# Altium footprint library Keebs.PcbLib: 219 footprints (part 11 of 14)
Each footprint in its own frame and in the unit in brackets; x right, y up, seen from the top. Pads: shape width x height; smd on the part's side, far side on the other; paste and mask are expansions set on the pad; w line width, h text height; cw(c..) or ccw(c..) is an arc to the next point about the centre after c.
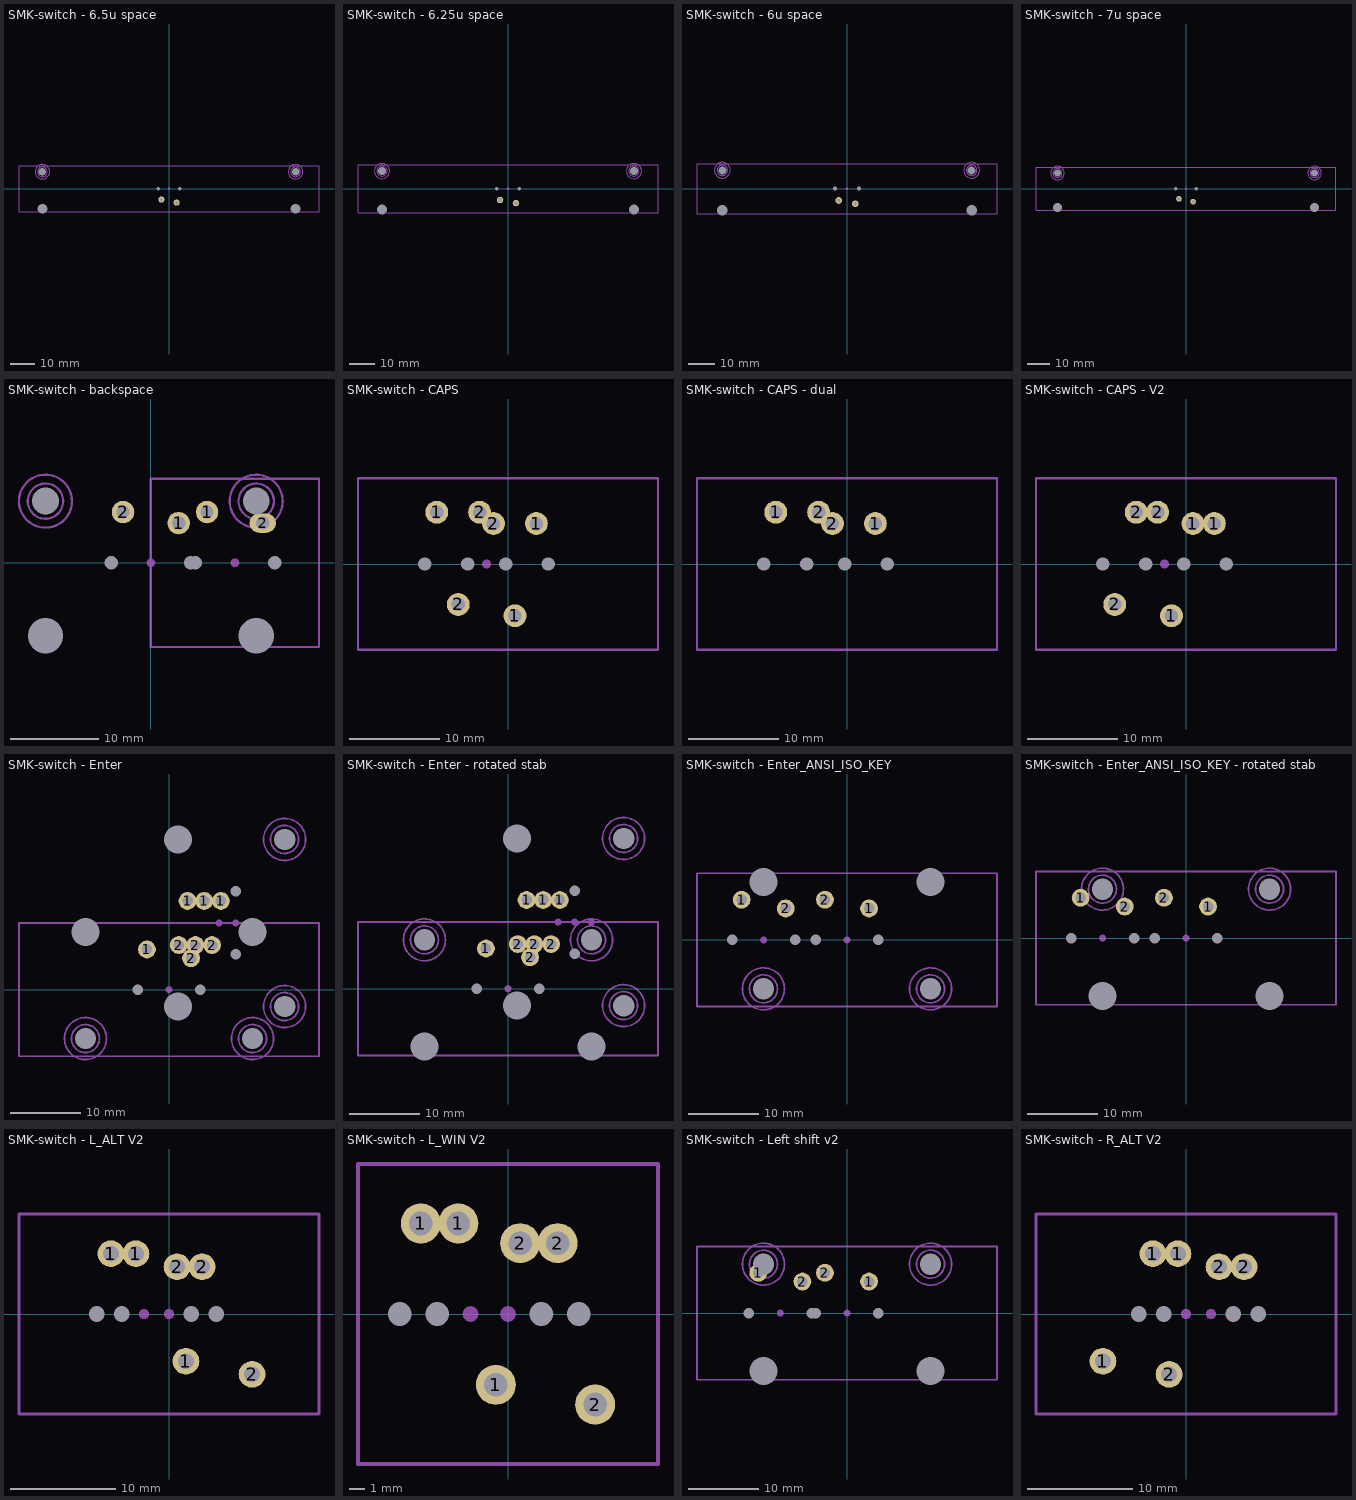
[diagram p10: the footprints below, top view; thin cyan lines are the x and y axes]

## SMK-switch - 6.5u space [mm]
pads (9):
  round 2.54 hole 1.5 mask-0.5: 1(3.15,-5.75) 2(-3.15,-4.5)
  round 1.524 hole 4 unplated: ""(-52.25,-8.255) ""(52.25,-8.255)
  round 1.524 hole 3.048 unplated: ""(-52.25,6.985) ""(52.25,6.985)
  round 1 hole 1.5 unplated: ""(-4.5,0) ""(4.5,0)
  round 1 on Mech13: ""(0,0)
Mechanical 13:
  lines w0.254: -61.912,-9.525 61.912,-9.525 61.912,9.525 -61.912,9.525 -61.912,-9.525
  text ".Designator" at -3.575,-3.7 h0.7
Mechanical 15:
  circle w0.254: c52.25,6.985 r2
  circle w0.254: c52.25,6.985 r3
  circle w0.254: c-52.25,6.985 r2
  circle w0.254: c-52.25,6.985 r3

## SMK-switch - 6.25u space [mm]
pads (9):
  round 2.54 hole 1.5 mask-0.5: 1(3.15,-5.75) 2(-3.15,-4.5)
  round 1.524 hole 4 unplated: ""(-50,-8.255) ""(50,-8.255)
  round 1.524 hole 3.048 unplated: ""(-50,6.985) ""(50,6.985)
  round 1 hole 1.5 unplated: ""(-4.5,0) ""(4.5,0)
  round 1 on Mech13: ""(0,0)
Mechanical 13:
  lines w0.254: -59.531,-9.525 59.531,-9.525 59.531,9.525 -59.531,9.525 -59.531,-9.525
  text ".Designator" at -3.575,-3.7 h0.7
Mechanical 15:
  circle w0.254: c-50,6.985 r3
  circle w0.254: c-50,6.985 r2
  circle w0.254: c50,6.985 r3
  circle w0.254: c50,6.985 r2

## SMK-switch - 6u space [mm]
pads (9):
  round 2.54 hole 1.499 mask-0.5: 1(3.15,-5.75) 2(-3.15,-4.5)
  round 1.524 hole 4 unplated: ""(-47.5,-8.255) ""(47.5,-8.255)
  round 1.524 hole 3.048 unplated: ""(-47.5,6.985) ""(47.5,6.985)
  round 1 hole 1.5 unplated: ""(-4.5,0) ""(4.5,0)
  round 1 on Mech13: ""(0,0)
Mechanical 13:
  lines w0.254: -57.15,-9.525 -57.15,9.525 57.15,9.525 57.15,-9.525 -57.15,-9.525
  text ".Designator" at -3.575,-3.7 h0.7
Mechanical 15:
  circle w0.254: c-47.5,6.985 r3
  circle w0.254: c-47.5,6.985 r2
  circle w0.254: c47.5,6.985 r3
  circle w0.254: c47.5,6.985 r2

## SMK-switch - 7u space [mm]
pads (9):
  round 2.54 hole 1.5 mask-0.5: 1(3.15,-5.75) 2(-3.15,-4.5)
  round 1.524 hole 4 unplated: ""(-57.15,-8.255) ""(57.15,-8.255)
  round 1.524 hole 3.048 unplated: ""(-57.15,6.985) ""(57.15,6.985)
  round 1 hole 1.5 unplated: ""(-4.5,0) ""(4.5,0)
  round 1 on Mech13: ""(0,0)
Mechanical 13:
  lines w0.254: -66.675,-9.525 -66.675,9.525 66.675,9.525 66.675,-9.525 -66.675,-9.525
  text ".Designator" at -3.575,-3.7 h0.7
Mechanical 15:
  circle w0.254: c-57.15,6.985 r3
  circle w0.254: c-57.15,6.985 r2
  circle w0.254: c57.15,6.985 r3
  circle w0.254: c57.15,6.985 r2

## SMK-switch - backspace [mm]
pads (14):
  round 2.54 hole 1.5 mask-0.5: 1(3.15,4.5) 1(6.375,5.75) 2(-3.15,5.75)
  oval 3x2.2 hole 1.5 mask-0.7: 2(12.675,4.5)
  round 1.524 hole 4 unplated: ""(-11.938,-8.255) ""(11.938,-8.255)
  round 1.524 hole 3.048 unplated: ""(-11.938,6.985) ""(11.938,6.985)
  round 1 hole 1.5 unplated: ""(-4.5,0) ""(4.5,0) ""(5.025,0) ""(14.025,0)
  round 1 on Mech13: ""(0,0) ""(9.525,0)
Mechanical 13:
  lines w0.254: 0,-9.525 19.05,-9.525 19.05,9.525 0,9.525 0,-9.525
  text ".Designator" at 6.65,3.75 h0.7
Mechanical 15:
  circle w0.254: c11.938,6.985 r2
  circle w0.254: c11.938,6.985 r3
  circle w0.254: c-11.938,6.985 r2
  circle w0.254: c-11.938,6.985 r3

## SMK-switch - CAPS [mm]
pads (13):
  round 2.54 hole 1.5 mask-0.5: 1(-7.912,5.75) 1(0.769,-5.75) 1(3.15,4.5) 2(-5.531,-4.5) 2(-3.15,5.75) 2(-1.613,4.5)
  round 1 hole 1.5 unplated: ""(-9.263,0) ""(-4.5,0) ""(-0.262,0) ""(4.5,0)
  round 1 on Mech13: ""(-4.763,0) ""(-2.381,0) ""(0,0)
Mechanical 13:
  lines w0.254: -16.669,-9.525 16.669,-9.525 ; -16.669,-9.525 16.669,-9.525 ; -16.669,-9.525 -16.669,9.525 16.669,9.525 16.669,-9.525
  text ".Designator" at -7.85,-7.5 h0.7

## SMK-switch - CAPS - dual [mm]
pads (10):
  round 2.54 hole 1.5 mask-0.5: 1(-7.912,5.75) 1(3.15,4.5) 2(-3.15,5.75) 2(-1.613,4.5)
  round 1 hole 1.5 unplated: ""(-9.263,0) ""(-4.5,0) ""(-0.262,0) ""(4.5,0)
  round 1 on Mech13: ""(-4.763,0) ""(0,0)
Mechanical 13:
  lines w0.254: -16.669,-9.525 -16.669,9.525 16.669,9.525 16.669,-9.525 ; -16.669,-9.525 16.669,-9.525 ; -16.669,-9.525 16.669,-9.525
  text ".Designator" at -7.85,-7.5 h0.7

## SMK-switch - CAPS - V2 [mm]
pads (13):
  round 2.54 hole 1.5 mask-0.5: 1(-1.613,-5.75) 1(0.769,4.5) 1(3.15,4.5) 2(-7.912,-4.5) 2(-5.531,5.75) 2(-3.15,5.75)
  round 1 hole 1.5 unplated: ""(-9.263,0) ""(-4.5,0) ""(-0.262,0) ""(4.5,0)
  round 1 on Mech13: ""(-4.763,0) ""(-2.381,0) ""(0,0)
Mechanical 13:
  lines w0.254: -16.669,-9.525 16.669,-9.525 ; -16.669,-9.525 16.669,-9.525 ; -16.669,-9.525 -16.669,9.525 16.669,9.525 16.669,-9.525
  text ".Designator" at -7.85,-7.5 h0.7

## SMK-switch - Enter [mm]
pads (24):
  round 2.54 hole 1.5 mask-0.5: 1(-3.15,5.75) 1(2.649,12.68) 1(5.03,12.68) 1(7.411,12.68) 2(1.399,6.38) 2(3.15,4.5) 2(3.78,6.38) 2(6.161,6.38)
  round 1.524 hole 3.048 unplated: ""(-11.938,-6.985) ""(11.938,-6.985) ""(16.515,-2.408) ""(16.515,21.468)
  round 1.524 hole 4 unplated: ""(-11.938,8.255) ""(1.275,-2.408) ""(1.275,21.468) ""(11.938,8.255)
  round 1 hole 1.5 unplated: ""(-4.5,0) ""(4.5,0) ""(9.53,5.03) ""(9.53,14.03)
  round 1 on Mech13: ""(0,0) ""(7.149,9.53) ""(9.53,9.53) ""(11.911,9.53)
Mechanical 13:
  lines w0.254: -21.431,-9.525 21.431,-9.525 21.431,9.525 -21.431,9.525 -21.431,-9.525
  text ".Designator" at 7.85,1.8 h0.7
Mechanical 15:
  circle w0.254: c-11.938,-6.985 r3
  circle w0.254: c-11.938,-6.985 r2
  circle w0.254: c11.938,-6.985 r3
  circle w0.254: c11.938,-6.985 r2
  circle w0.254: c16.515,-2.408 r3
  circle w0.254: c16.515,-2.408 r2
  circle w0.254: c16.515,21.468 r3
  circle w0.254: c16.515,21.468 r2

## SMK-switch - Enter - rotated stab [mm]
pads (24):
  round 2.54 hole 1.5 mask-0.5: 1(-3.15,5.75) 1(2.649,12.68) 1(5.03,12.68) 1(7.411,12.68) 2(1.399,6.38) 2(3.15,4.5) 2(3.78,6.38) 2(6.161,6.38)
  round 1.524 hole 4 unplated: ""(-11.938,-8.255) ""(1.275,21.468) ""(11.938,-8.255)
  round 1.524 hole 3.048 unplated: ""(-11.938,6.985) ""(11.938,6.985) ""(16.515,-2.408) ""(16.515,21.468)
  round 1 hole 1.5 unplated: ""(-4.5,0) ""(4.5,0) ""(9.53,5.03) ""(9.53,14.03)
  round 1 on Mech13: ""(0,0) ""(7.149,9.53) ""(9.53,9.53) ""(11.911,9.53)
  round 1.524 hole 3.988 unplated: ""(1.275,-2.408)
Mechanical 13:
  lines w0.254: -21.431,-9.525 21.431,-9.525 21.431,9.525 -21.431,9.525 -21.431,-9.525
  text ".Designator" at 7.85,1.8 h0.7
Mechanical 15:
  circle w0.254: c16.515,21.468 r3
  circle w0.254: c16.515,21.468 r2
  circle w0.254: c16.515,-2.408 r3
  circle w0.254: c16.515,-2.408 r2
  circle w0.254: c11.938,6.985 r3
  circle w0.254: c11.938,6.985 r2
  circle w0.254: c-11.938,6.985 r3
  circle w0.254: c-11.938,6.985 r2

## SMK-switch - Enter_ANSI_ISO_KEY [mm]
pads (16):
  round 2.54 hole 1.5 mask-0.5: 1(-15.056,5.75) 1(3.15,4.5) 2(-8.756,4.5) 2(-3.15,5.75)
  round 1 hole 1.5 unplated: ""(-16.406,0) ""(-7.406,0) ""(-4.5,0) ""(4.5,0)
  round 1.524 hole 3.048 unplated: ""(-11.938,-6.985) ""(11.938,-6.985)
  round 1.524 hole 4 unplated: ""(-11.938,8.255) ""(11.938,8.255)
  round 1 on Mech13: ""(-11.906,0) ""(-11.906,0) ""(0,0) ""(0,0)
Mechanical 13:
  lines w0.254: -21.431,-9.525 21.431,-9.525 21.431,9.525 -21.431,9.525 -21.431,-9.525
  text ".Designator" at 7.85,1.8 h0.7
Mechanical 15:
  circle w0.254: c11.938,-6.985 r2
  circle w0.254: c11.938,-6.985 r3
  circle w0.254: c-11.938,-6.985 r2
  circle w0.254: c-11.938,-6.985 r3

## SMK-switch - Enter_ANSI_ISO_KEY - rotated stab [mm]
pads (16):
  round 2.54 hole 1.5 mask-0.5: 1(-15.056,5.75) 1(3.15,4.5) 2(-8.756,4.5) 2(-3.15,5.75)
  round 1 hole 1.5 unplated: ""(-16.406,0) ""(-7.406,0) ""(-4.5,0) ""(4.5,0)
  round 1.524 hole 4 unplated: ""(-11.938,-8.255) ""(11.938,-8.255)
  round 1.524 hole 3.048 unplated: ""(-11.938,6.985) ""(11.938,6.985)
  round 1 on Mech13: ""(-11.906,0) ""(-11.906,0) ""(0,0) ""(0,0)
Mechanical 13:
  lines w0.254: -21.431,-9.525 21.431,-9.525 21.431,9.525 -21.431,9.525 -21.431,-9.525
  text ".Designator" at 7.85,1.8 h0.7
Mechanical 15:
  circle w0.254: c-11.938,6.985 r3
  circle w0.254: c-11.938,6.985 r2
  circle w0.254: c11.938,6.985 r3
  circle w0.254: c11.938,6.985 r2

## SMK-switch - L_ALT V2 [mm]
pads (13):
  round 2.54 hole 1.5 mask-0.5: 1(-5.531,5.75) 1(-3.15,5.75) 1(1.613,-4.5) 2(0.769,4.5) 2(3.15,4.5) 2(7.912,-5.75)
  round 1 hole 1.5 unplated: ""(-6.881,0) ""(-4.5,0) ""(2.119,0) ""(4.5,0)
  round 1 on Mech13: ""(-2.381,0) ""(0,0) ""(4.763,0)
Mechanical 13:
  lines w0.254: -14.287,-9.525 14.287,-9.525 14.287,9.525 -14.287,9.525 -14.287,-9.525
  text ".Designator" at 2.9,2.625 h0.7

## SMK-switch - L_WIN V2 [mm]
pads (13):
  round 2.54 hole 1.5 mask-0.5: 1(-5.531,5.75) 1(-3.15,5.75) 1(-0.769,-4.5) 2(0.769,4.5) 2(3.15,4.5) 2(5.531,-5.75)
  round 1 hole 1.5 unplated: ""(-6.881,0) ""(-4.5,0) ""(2.119,0) ""(4.5,0)
  round 1 on Mech13: ""(-2.381,0) ""(0,0) ""(2.381,0)
Mechanical 13:
  lines w0.254: -9.525,-9.525 -9.525,9.525 9.525,9.525 9.525,-9.525 -9.525,-9.525
  text ".Designator" at -1.925,-7.85 h0.7

## SMK-switch - Left shift v2 [mm]
pads (14):
  round 2.54 hole 1.5 mask-0.5: 1(-12.675,5.75) 1(3.15,4.5) 2(-6.375,4.5) 2(-3.15,5.75)
  round 1 hole 1.5 unplated: ""(-14.025,0) ""(-5.025,0) ""(-4.5,0) ""(4.5,0)
  round 1.524 hole 4 unplated: ""(-11.938,-8.255) ""(11.938,-8.255)
  round 1.524 hole 3.048 unplated: ""(-11.938,6.985) ""(11.938,6.985)
  round 1 on Mech13: ""(-9.525,0) ""(0,0)
Mechanical 13:
  lines w0.254: -21.431,-9.525 21.431,-9.525 21.431,9.525 -21.431,9.525 -21.431,-9.525
  text ".Designator" at -5.45,-3.925 h0.7
Mechanical 15:
  circle w0.254: c-11.938,6.985 r3
  circle w0.254: c-11.938,6.985 r2
  circle w0.254: c11.938,6.985 r3
  circle w0.254: c11.938,6.985 r2

## SMK-switch - R_ALT V2 [mm] "Common tsangan and WK bottom + AEK"
pads (13):
  round 2.54 hole 1.5 mask-0.5: 1(-7.912,-4.5) 1(-3.15,5.75) 1(-0.769,5.75) 2(-1.613,-5.75) 2(3.15,4.5) 2(5.531,4.5)
  round 1 on Mech13: ""(-4.763,0) ""(0,0) ""(2.381,0)
  round 1 hole 1.5 unplated: ""(-4.5,0) ""(-2.119,0) ""(4.5,0) ""(6.881,0)
Mechanical 13:
  lines w0.254: -14.287,-9.525 14.287,-9.525 14.287,9.525 -14.287,9.525 -14.287,-9.525
  text ".Designator" at -10.675,-5.325 h0.7